# Altium footprint library HVPowerModule.PcbLib: 22 footprints (part 1 of 2)
Each footprint in its own frame and in the unit in brackets; x right, y up, seen from the top. Pads: shape width x height; smd on the part's side, far side on the other; paste and mask are expansions set on the pad; w line width, h text height; cw(c..) or ccw(c..) is an arc to the next point about the centre after c.
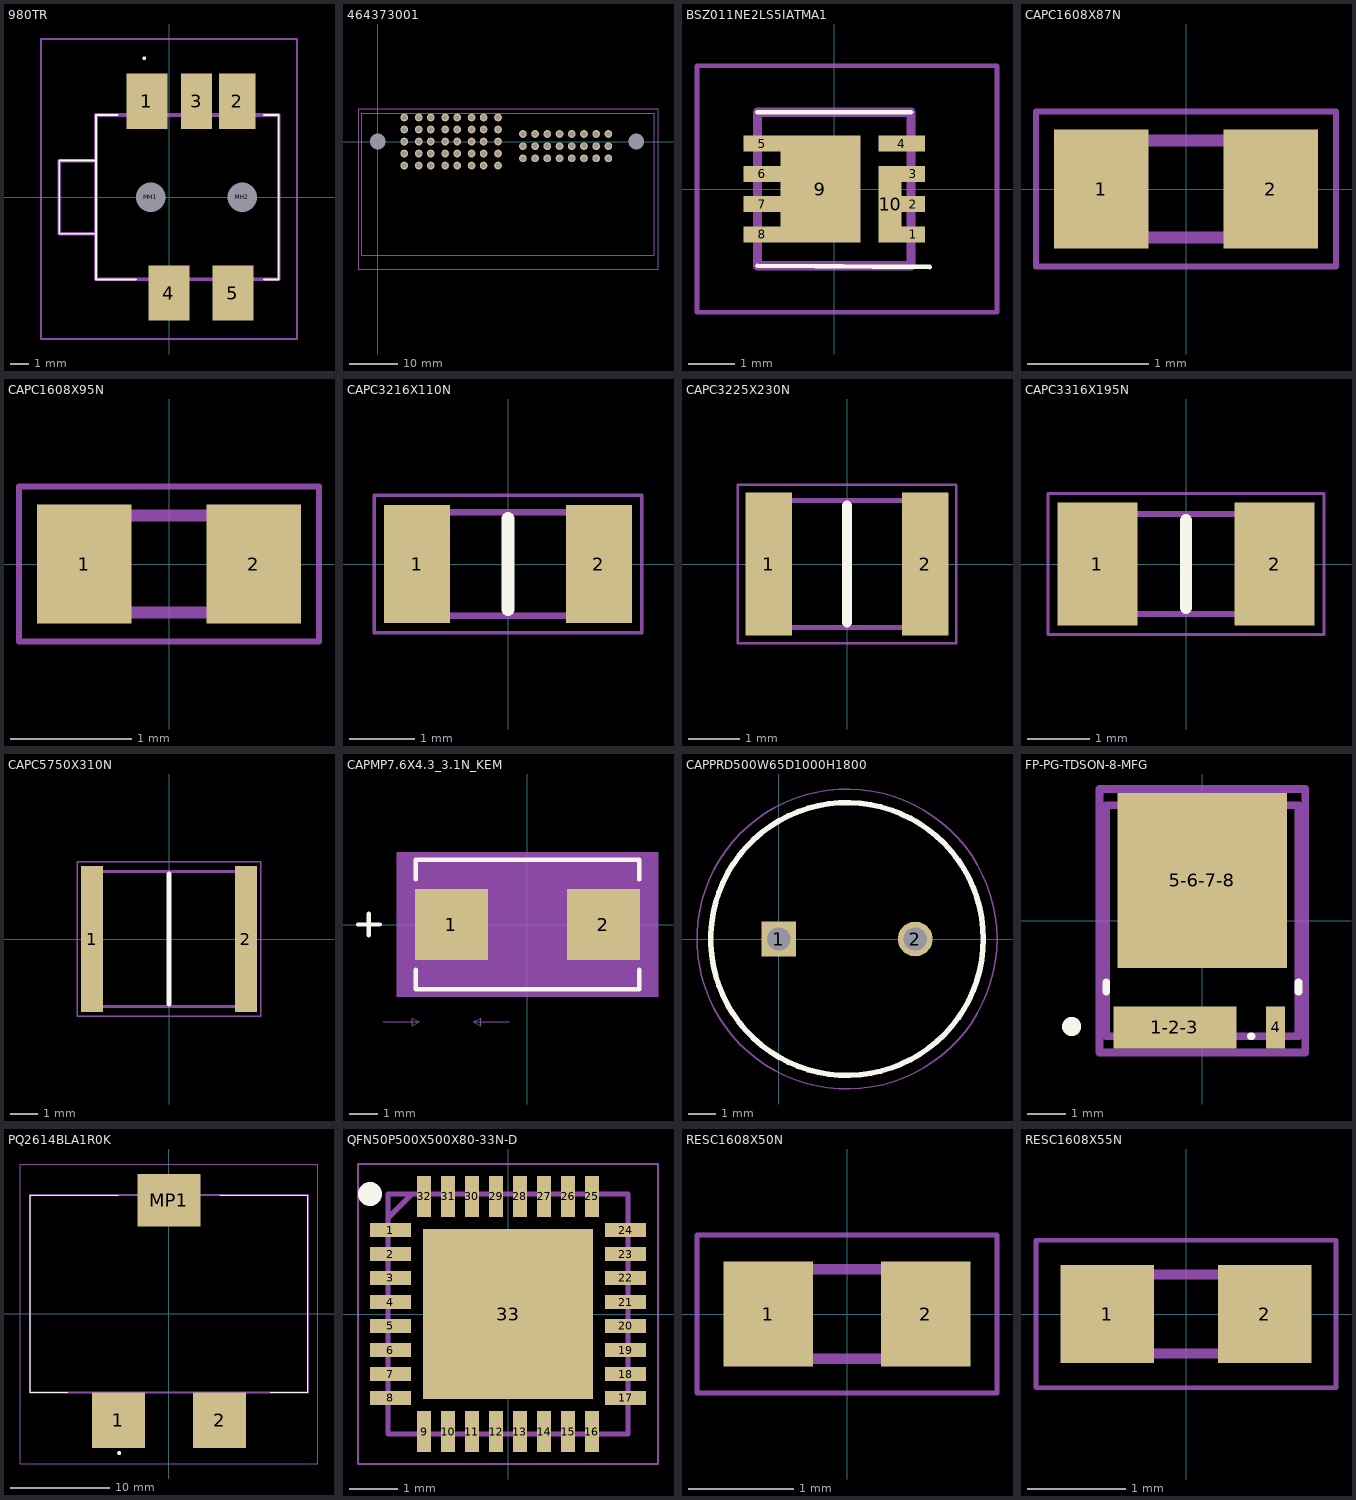
[diagram p0: the footprints below, top view; thin cyan lines are the x and y axes]

## 980TR [mm]
pads (7):
  rect 2.24x3.02 smd: 1(-1.205,5.245) 4(-0.005,-5.245) 5(3.495,-5.245)
  rect 2.01x3.02 smd: 2(3.73,5.245)
  rect 1.7x3.02 smd: 3(1.515,5.245)
  round 0.8 hole 1.6 unplated: MH1(-0.995,0) MH2(4.005,0)
Top Overlay:
  lines w0.1: -3.995,-1.995 -6,-1.995 -6,2 -3.995,2 ; -2.8,4.495 -3.995,4.495 -4,-4.495 -1.8,-4.495 ; 5.2,-4.495 6.005,-4.495 6,4.495 5.2,4.495 ; -1.4,7.6 ccw(c-1.35,7.6) -1.3,7.6 ccw(c-1.35,7.6) -1.4,7.6
Mechanical 13:
  lines w0.2: -3.995,-1.995 -6.005,-1.995 -6.005,1.995 -3.995,1.995 ; -3.995,-4.495 6.005,-4.495 6.005,4.495 -3.995,4.495 -3.995,-4.495
Mechanical 15:
  lines w0.1: -7.005,-7.755 7.005,-7.755 7.005,8.65 -7.005,8.65 -7.005,-7.755
3D body "980TR.stp": height 4.31, standoff -0.31, extent -6.003,-6.062 6.011,6.235

## 464373001 [mm]
pads (66):
  round 1.625 hole 3.25 unplated: MH1(0,0) MH2(53.772,0)
  round 1.605 hole 1.07: P1(5.5,-5) P1(5.5,-2.5) P1(5.5,0) P1(5.5,2.5) P1(5.5,5) P1(8.5,-5) P1(8.5,-2.5) P1(8.5,0) P1(8.5,2.5) P1(8.5,5) P2(11,-5) P2(11,-2.5) P2(11,0) P2(11,2.5) P2(11,5) P2(14,-5) P2(14,-2.5) P2(14,0) P2(14,2.5) P2(14,5) P3(16.5,-5) P3(16.5,-2.5) P3(16.5,0) P3(16.5,2.5) P3(16.5,5) P3(19.5,-5) P3(19.5,-2.5) P3(19.5,0) P3(19.5,2.5) P3(19.5,5) P4(22,-5) P4(22,-2.5) P4(22,0) P4(22,2.5) P4(22,5) P4(25,-5) P4(25,-2.5) P4(25,0) P4(25,2.5) P4(25,5) S1(30.17,-3.5) S2(32.71,-3.5) S3(35.25,-3.5) S4(37.79,-3.5) S5(40.33,-3.5) S6(42.87,-3.5) S7(45.41,-3.5) S8(47.95,-3.5) S9(30.17,-0.96) S10(32.71,-0.96) S11(35.25,-0.96) S12(37.79,-0.96) S13(40.33,-0.96) S14(42.87,-0.96) S15(45.41,-0.96) S16(47.95,-0.96) S17(30.17,1.58) S18(32.71,1.58) S19(35.25,1.58) S20(37.79,1.58) S21(40.33,1.58) S22(42.87,1.58) S23(45.41,1.58) S24(47.95,1.58)
Mechanical 13:
  lines w0.2: -3.375,-23.65 -3.375,5.842 57.425,5.842 57.425,-23.65 -3.375,-23.65
Mechanical 15:
  lines w0.1: -4.128,-26.6 58.272,-26.6 58.272,6.85 -4.128,6.85 -4.128,-26.6
3D body "464373001.stp": height 3.96, standoff -10.5, extent -3.35,-23.65 57.41,5.6

## BSZ011NE2LS5IATMA1 [mm]
pads (10):
  rect 0.5x0.34 smd: 1(1.7,-0.975) 2(1.7,-0.325) 3(1.7,0.325)
  rect 1x0.34 smd: 4(1.45,0.975)
  rect 0.8x0.34 smd: 5(-1.55,0.975) 6(-1.55,0.325) 7(-1.55,-0.325) 8(-1.55,-0.975)
  rect 1.71x2.29 smd: 9(-0.295,0)
  rect 0.5x1.64 smd: 10(1.2,-0.325)
Top Overlay:
  lines w0.1: -1.65,-1.65 2.057,-1.676 -1.65,-1.65 ; -1.65,1.65 1.65,1.65 -1.65,1.65
Mechanical 13:
  lines w0.2: -1.65,-1.65 1.65,-1.65 1.65,1.65 -1.65,1.65 -1.65,-1.65
Mechanical 15:
  lines w0.1: -2.95,-2.65 -2.95,2.65 3.5,2.65 3.5,-2.65 -2.95,-2.65
3D body "BSZ011NE2LS5IATMA1.stp": height 1.2, standoff 0, extent -1.916,-1.65 1.916,1.65

## CAPC1608X87N [mm]
pads (2):
  rect 0.78x0.98 smd: 1(-0.7,0) 2(0.7,0)
Mechanical 13:
  lines w0.1: -0.8,-0.4 -0.8,0.4 0.8,0.4 0.8,-0.4 -0.8,-0.4
Mechanical 15:
  lines w0.05: -1.24,-0.64 -1.24,0.64 1.24,0.64 1.24,-0.64 -1.24,-0.64
3D body "C0603C101J5RACTU.stp": height 0.87, standoff 0, extent -0.8,-0.4 0.8,0.4

## CAPC1608X95N [mm]
pads (2):
  rect 0.78x0.98 smd: 1(-0.7,0) 2(0.7,0)
Mechanical 13:
  lines w0.1: -0.8,-0.4 -0.8,0.4 0.8,0.4 0.8,-0.4 -0.8,-0.4
Mechanical 15:
  lines w0.05: -1.24,-0.64 -1.24,0.64 1.24,0.64 1.24,-0.64 -1.24,-0.64
3D body "C0603C104M4RACTU.stp": height 0.95, standoff 0, extent -0.8,-0.4 0.8,0.4

## CAPC3216X110N [mm]
pads (2):
  rect 1.02x1.82 smd: 1(-1.4,0) 2(1.4,0)
Top Overlay:
  lines w0.2: 0,-0.7 0,0.7
Mechanical 13:
  lines w0.1: -1.6,-0.8 1.6,-0.8 1.6,0.8 -1.6,0.8 -1.6,-0.8
Mechanical 15:
  lines w0.05: -2.06,-1.06 2.06,-1.06 2.06,1.06 -2.06,1.06 -2.06,-1.06
3D body "C1206C105K5RAC.stp": height 1.1, standoff 0, extent -1.6,-0.8 1.6,0.8

## CAPC3225X230N [mm]
pads (2):
  rect 0.92x2.82 smd: 1(-1.54,0) 2(1.54,0)
Top Overlay:
  lines w0.2: 0,-1.15 0,1.15
Mechanical 13:
  lines w0.1: -1.6,-1.25 1.6,-1.25 1.6,1.25 -1.6,1.25 -1.6,-1.25
Mechanical 15:
  lines w0.05: -2.15,-1.56 2.15,-1.56 2.15,1.56 -2.15,1.56 -2.15,-1.56
3D body "C3225X7R1H106K250AC.stp": height 2.3, standoff 0, extent -1.6,-1.25 1.6,1.25

## CAPC3316X195N [mm]
pads (2):
  rect 1.28x1.96 smd: 1(-1.42,0) 2(1.42,0)
Top Overlay:
  lines w0.2: 0,-0.7 0,0.7
Mechanical 13:
  lines w0.1: -1.65,-0.8 -1.65,0.8 1.65,0.8 1.65,-0.8 -1.65,-0.8
Mechanical 15:
  lines w0.05: -2.21,-1.13 -2.21,1.13 2.21,1.13 2.21,-1.13 -2.21,-1.13
3D body "C1206X475M5RACAUTO.stp": height 1.95, standoff 0, extent -1.65,-0.8 1.65,0.8

## CAPC5750X310N [mm]
pads (2):
  rect 0.81x5.41 smd: 1(-2.85,0) 2(2.85,0)
Top Overlay:
  lines w0.2: 0,-2.4 0,2.4
Mechanical 13:
  lines w0.1: -2.85,-2.5 2.85,-2.5 2.85,2.5 -2.85,2.5 -2.85,-2.5
Mechanical 15:
  lines w0.05: -3.405,-2.86 3.405,-2.86 3.405,2.86 -3.405,2.86 -3.405,-2.86
3D body "C5750X7S2A106K230KB.stp": height 3.07, standoff 0.03, extent -2.65,-2.45 2.65,2.45

## CAPMP7.6X4.3_3.1N_KEM [mm]
pads (2):
  rect 2.56x2.5 smd paste+0 mask+0: 1(-2.672,0) 2(2.672,0)
Top Overlay:
  lines w0.152: -5.951,0 -5.189,0 ; -5.57,-0.381 -5.57,0.381 ; -3.927,-1.583 -3.927,-2.277 3.927,-2.277 3.927,-1.583 ; -3.927,1.583 -3.927,2.277 3.927,2.277 3.927,1.583
Mechanical 5:
  region: 4.587,-2.531 -4.587,-2.531 -4.587,2.531 4.587,2.531
Mechanical 7:
  lines w0.025: -5.07,-3.42 -3.8,-3.42 ; -0.63,-3.42 -1.9,-3.42 ; -3.8,-3.42 -4.054,-3.293 -4.054,-3.547 -3.8,-3.42 ; -1.9,-3.42 -1.646,-3.293 -1.646,-3.547 -1.9,-3.42
Mechanical 13:
  lines w0.025: -5.951,0 -5.189,0 ; -5.57,-0.381 -5.57,0.381 ; -3.8,-2.15 3.8,-2.15 3.8,2.15 -3.8,2.15 -3.8,-2.15
Mechanical 15:
  region: -4.054,-1.504 -4.206,-1.504 -4.206,1.504 -4.054,1.504 -4.054,2.404 4.054,2.404 4.054,1.504 4.206,1.504 4.206,-1.504 4.054,-1.504 4.054,-2.404 -4.054,-2.404
  lines w0.152: -4.206,-1.504 -4.206,1.504 -4.054,1.504 -4.054,2.404 4.054,2.404 4.054,1.504 4.206,1.504 4.206,-1.504 4.054,-1.504 4.054,-2.404 -4.054,-2.404 -4.054,-1.504 -4.206,-1.504
3D body "CAPMP76X43_31N_KEM.step": height 3.15, standoff 0, extent -3.673,-2.023 3.927,2.277

## CAPPRD500W65D1000H1800 [mm]
pads (2):
  rect 1.275x1.275 hole 0.85: 1(0,0)
  round 1.275 hole 0.85: 2(5,0)
Top Overlay:
  circle w0.2: c2.5,0 r5
Mechanical 13:
  circle w0.1: c2.5,0 r5
Mechanical 15:
  circle w0.05: c2.5,0 r5.5
3D body "A750MW687M1VAAE018.stp": height 28, standoff 0, extent -2.75,-5.247 7.75,5.247

## FP-PG-TDSON-8-MFG [mm]
pads (3):
  rect 3.2x1.1 smd paste-1000 mask-1000: 1-2-3(-0.715,-2.775)
  rect 0.5x1.1 smd paste-1000 mask+0: 4(1.905,-2.775)
  rect 4.41x4.55 smd paste-1000 mask-1000: 5-6-7-8(0,1.05)
Top Overlay:
  circle w0.25: c-3.4,-2.75 r0.125
  lines w0.2: -2.5,-1.85 -2.5,-1.6 ; 1.26,-3 1.28,-3 ; 2.5,-1.85 2.5,-1.6
Top Paste:
  rectangle: -2.265,-2.73 -1.365,-2.28
  rectangle: -1.165,-2.73 -0.265,-2.28
  rectangle: -0.065,-2.73 0.835,-2.28
  rectangle: 1.705,-2.73 2.105,-2.28
  rectangle: 1.705,-3.28 2.105,-2.93
  rectangle: 0.435,-3.28 0.835,-2.93
  rectangle: -0.835,-3.28 -0.435,-2.93
  rectangle: -2.105,-3.28 -1.705,-2.93
  rectangle: 0.1,0.75 1.6,2.25
  rectangle: -1.6,0.75 -0.1,2.25
  rectangle: 0.1,-0.95 1.6,0.55
  rectangle: -1.6,-0.95 -0.1,0.55
  rectangle: 1.655,2.53 2.155,3.28
  rectangle: 0.385,2.53 0.885,3.28
  rectangle: -0.885,2.53 -0.385,3.28
  rectangle: -2.155,2.53 -1.655,3.28
Top Solder:
  region: -2.315,-2.225 0.885,-2.225 0.885,-3.325 0.385,-3.325 0.385,-2.825 -0.385,-2.825 -0.385,-3.325 -0.885,-3.325 -0.885,-2.825 -1.655,-2.825 -1.655,-3.325 -2.155,-3.325 -2.155,-2.825 -2.315,-2.825
  region: -2.205,3.325 -1.605,3.325 -1.605,2.525 -0.935,2.525 -0.935,3.325 -0.335,3.325 -0.335,2.525 0.335,2.525 0.335,3.325 0.935,3.325 0.935,2.525 1.605,2.525 1.605,3.325 2.205,3.325 2.205,-1.225 -2.205,-1.225
Top 3D Body:
  lines w0.2: -2.5,-3 -2.5,3 2.5,3 2.5,-3 -2.5,-3
Top Courtyard:
  lines w0.2: -2.675,-3.425 -2.675,3.425 2.675,3.425 2.675,-3.425 -2.675,-3.425
Top Assembly:
  lines w0.2: -2.675,-3.425 -2.675,3.425 2.675,3.425 2.675,-3.425 -2.675,-3.425
  text ".Designator" at 0,0 h1
Top Component Center:
  lines w0.1: -0.5,0 0.5,0 ; 0,-0.5 0,0.5
3D body "Trans_Infineon_BSC016N06NSATMA1_eec.STEP": height 0.25, standoff 0, extent -2.675,-3.425 2.675,3.425

## PQ2614BLA1R0K [mm]
pads (3):
  rect 5.33x5.59 smd: 1(-5.075,-10.655) 2(5.08,-10.655)
  rect 6.35x5.28 smd: MP1(0,11.42)
Top Overlay:
  lines w0.1: -10.16,-7.86 -13.95,-7.865 -13.95,11.94 -5.08,11.94 ; 5.075,11.94 13.95,11.94 13.95,-7.86 10.16,-7.86
  lines w0.2: -5.1,-13.96 cw(c-5,-13.96) -4.9,-13.96 cw(c-5,-13.96) -5.1,-13.96
Mechanical 13:
  lines w0.2: -13.95,-7.86 13.95,-7.86 13.95,11.94 -13.95,11.94 -13.95,-7.86
Mechanical 15:
  lines w0.1: -14.95,-15.06 14.95,-15.06 14.95,15.06 -14.95,15.06 -14.95,-15.06
3D body "PQ2614BLA (1).stp": height 15, standoff -0.1, extent -13.451,-12.789 13.349,14.386

## QFN50P500X500X80-33N-D [mm]
pads (33):
  rect 0.85x0.3 smd mask+0.04: 1(-2.45,1.75) 8(-2.45,-1.75) 17(2.45,-1.75) 24(2.45,1.75)
  rect 0.85x0.3 smd: 2(-2.45,1.25) 3(-2.45,0.75) 4(-2.45,0.25) 5(-2.45,-0.25) 6(-2.45,-0.75) 7(-2.45,-1.25) 18(2.45,-1.25) 19(2.45,-0.75) 20(2.45,-0.25) 21(2.45,0.25) 22(2.45,0.75) 23(2.45,1.25)
  rect 0.3x0.85 smd mask+0.04: 9(-1.75,-2.45) 16(1.75,-2.45) 25(1.75,2.45) 32(-1.75,2.45)
  rect 0.3x0.85 smd: 10(-1.25,-2.45) 11(-0.75,-2.45) 12(-0.25,-2.45) 13(0.25,-2.45) 14(0.75,-2.45) 15(1.25,-2.45) 26(1.25,2.45) 27(0.75,2.45) 28(0.25,2.45) 29(-0.25,2.45) 30(-0.75,2.45) 31(-1.25,2.45)
  rect 3.55x3.55 smd: 33(0,0)
Top Overlay:
  circle w0.25: c-2.875,2.5 r0.125
Mechanical 13:
  lines w0.1: -2.5,2 -2,2.5 ; -2.5,-2.5 2.5,-2.5 2.5,2.5 -2.5,2.5 -2.5,-2.5
Mechanical 15:
  lines w0.05: -3.125,-3.125 3.125,-3.125 3.125,3.125 -3.125,3.125 -3.125,-3.125
3D body "LTC3892EUH#PBF.stp": height 0.8, standoff 0, extent -2.55,-2.55 2.55,2.55

## RESC1608X50N [mm]
pads (2):
  rect 0.85x1 smd: 1(-0.75,0) 2(0.75,0)
Mechanical 13:
  lines w0.1: -0.788,-0.425 0.788,-0.425 0.788,0.425 -0.788,0.425 -0.788,-0.425
Mechanical 15:
  lines w0.05: -1.425,-0.75 1.425,-0.75 1.425,0.75 -1.425,0.75 -1.425,-0.75
3D body "CRCW0603118KFKEA.stp": height 0.5, standoff 0, extent -0.787,-0.425 0.787,0.425

## RESC1608X55N [mm]
pads (2):
  rect 0.95x1 smd: 1(-0.8,0) 2(0.8,0)
Mechanical 13:
  lines w0.1: -0.8,-0.4 0.8,-0.4 0.8,0.4 -0.8,0.4 -0.8,-0.4
Mechanical 15:
  lines w0.05: -1.525,-0.75 1.525,-0.75 1.525,0.75 -1.525,0.75 -1.525,-0.75
3D body "ERA-3ARB332V.stp": height 0.55, standoff 0, extent -0.8,-0.4 0.8,0.4